# Altium schematic symbol library TCAL9539RTWRQ1.SchLib: 1 symbol
Pins are listed as number, name and electrical type; pins without a type are passive.

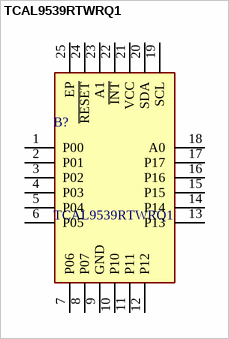
[diagram p0: symbol TCAL9539RTWRQ1]

## TCAL9539RTWRQ1
designator B?
Interface - I/O Expanders Automotive 16-bit low voltage IC/SMBus I/O expander w/interrupt, reset and agile I/O configuration 24-WQFN -40 to 125; Manufacturer_Name: Texas Instruments; Geometry.Height: 0.8mm; Mouser Part Number: 595-TCAL9539RTWRQ1; Mouser Price/Stock: https://www.mouser.co.uk/ProductDetail/Texas-Instruments/TCAL9539RTWRQ1?qs=HoCaDK9Nz5cqBCs4xXWfwA%3D%3D; Manufacturer_Part_Number: TCAL9539RTWRQ1; Datasheet Link: https://www.ti.com/lit/ds/symlink/tcal9539-q1.pdf?HQS=dis-mous-null-mousermode-dsf-pf-null-wwe&ts=1700652795434&ref_url=https%253A%252F%252Fwww.mouser.co.il%252F
footprint QFN50P400X400X80-25N-D
pins: 1 P00, 2 P01, 3 P02, 4 P03, 5 P04, 6 P05, 7 P06, 8 P07, 9 GND, 10 P10, 11 P11, 12 P12, 13 P13, 14 P14, 15 P15, 16 P16, 17 P17, 18 A0, 19 SCL, 20 SDA, 21 VCC, 22 ~{INT}, 23 A1, 24 ~{RESET}, 25 EP